# EAGLE library part ARDUINO_NANO (library dedicatedLib)
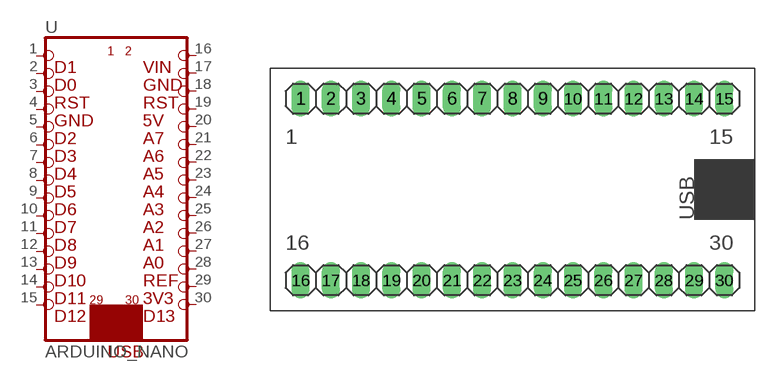
[diagram p1: symbol with the pads of NANOPIN; footprint NANOPIN]

Designator prefix -

## ARDUINO_NANO  [NANOPIN]
1  1  pas
2  3  pas
3  5  pas
4  7  pas
5  9  pas
6  11  pas
7  13  pas
8  15  pas
9  17  pas
10  19  pas
11  21  pas
12  23  pas
13  25  pas
14  27  pas
15  29  pas
16  2  pas
17  4  pas
18  6  pas
19  8  pas
20  10  pas
21  12  pas
22  14  pas
23  16  pas
24  18  pas
25  20  pas
26  22  pas
27  24  pas
28  26  pas
29  28  pas
30  30  pas

## Footprint NANOPIN (pad centres in mm)
drill 1.016 long: 1 -17.78,7.62; 2 -15.24,7.62; 3 -12.7,7.62; 4 -10.16,7.62; 5 -7.62,7.62; 6 -5.08,7.62; 7 -2.54,7.62; 8 0,7.62; 9 2.54,7.62; 10 5.08,7.62; 11 7.62,7.62; 12 10.16,7.62; 13 12.7,7.62; 14 15.24,7.62; 15 17.78,7.62; 16 -17.78,-7.62; 17 -15.24,-7.62; 18 -12.7,-7.62; 19 -10.16,-7.62; 20 -7.62,-7.62; 21 -5.08,-7.62; 22 -2.54,-7.62; 23 0,-7.62; 24 2.54,-7.62; 25 5.08,-7.62; 26 7.62,-7.62; 27 10.16,-7.62; 28 12.7,-7.62; 29 15.24,-7.62; 30 17.78,-7.62